# EAGLE library part MINI-USB (library kotuku)
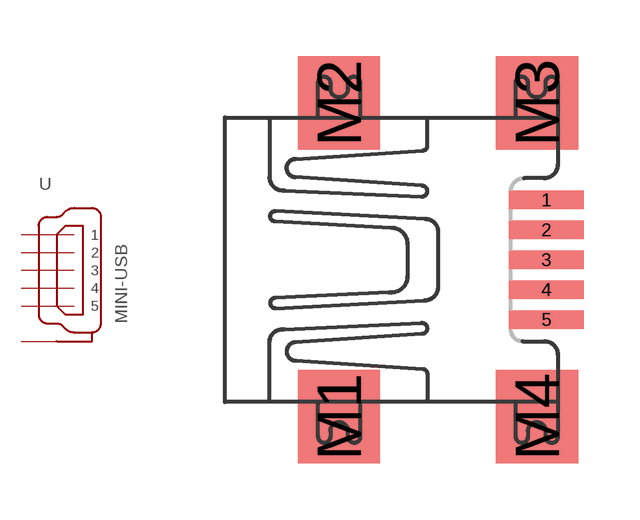
[diagram p17: symbol with the pads of MINI-USB; footprint MINI-USB]

Designator prefix -

## MINI-USB  [MINI-USB]
1  1  in
2  2  in
3  3  in
4  4  in
5  5  in
M1  MOUNT
M2  MOUNT
M3  MOUNT
M4  MOUNT

## Footprint MINI-USB (pad centres in mm)
smd 2 x 0.5: 1 3.52,1.6; 2 3.52,0.8; 3 3.52,0; 4 3.52,-0.8; 5 3.52,-1.6
smd 2.2 x 2.5: M1 -2.03,-4.2; M2 -2.03,4.2; M3 3.27,4.2; M4 3.27,-4.2